# EAGLE library part SSW-104-22-F-D-VS (library con_samtec2)
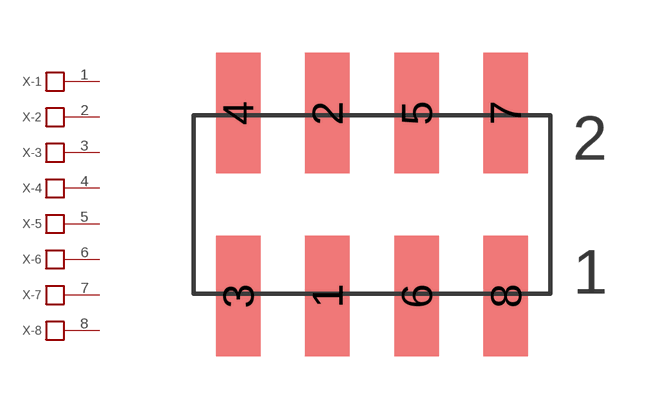
[diagram p3: symbol with the pads of SSW_04X2; footprint SSW_04X2]

Designator prefix X; gates -6=PIN-1 -5=PIN-1 -4=PIN-1 -3=PIN-1 -2=PIN-1 -1=PIN-1 -7=PIN-1 -8=PIN-1

## SSW-104-22-F-D-VS  [SSW_04X2]
1  -1:P$1
2  -2:P$1
3  -3:P$1
4  -4:P$1
5  -5:P$1
6  -6:P$1
7  -7:P$1
8  -8:P$1

## Footprint SSW_04X2 (pad centres in mm)
smd 1.27 x 3.429: 1 -1.27,-2.603; 2 -1.27,2.603; 3 -3.81,-2.603; 4 -3.81,2.603; 5 1.27,2.603; 6 1.27,-2.603; 7 3.81,2.603; 8 3.81,-2.603